# Altium schematic symbol library Plat.SchLib: 6 symbols
Pins are listed as number, name and electrical type; pins without a type are passive.

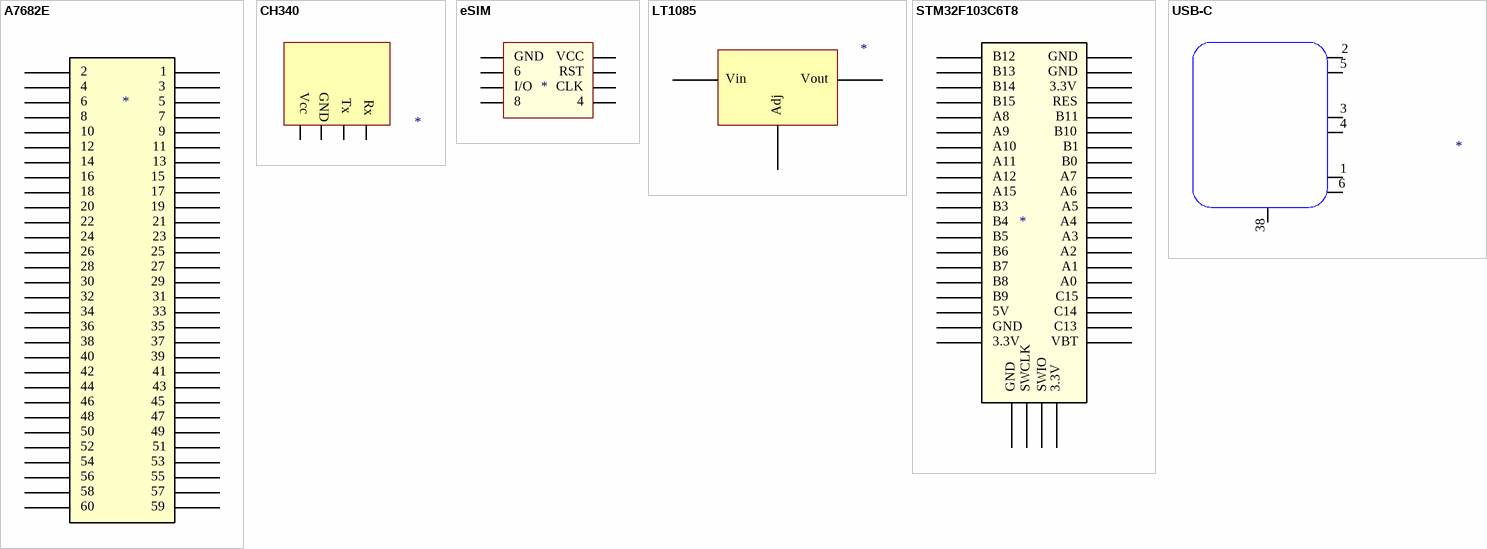
[diagram p0: symbols A7682E to USB-C]

## A7682E
designator A7682E_J20?
footprint A7682
pins: 1, 2, 3, 4, 5, 6, 7, 8, 9, 10, 11, 12, 13, 14, 15, 16, 17, 18, 19, 20, 21, 22, 23, 24, 25, 26, 27, 28, 29, 30, 31, 32, 33, 34, 35, 36, 37, 38, 39, 40, 41, 42, 43, 44, 45, 46, 47, 48, 49, 50, 51, 52, 53, 54, 55, 56, 57, 58, 59, 60

## CH340
designator CH340?
pins: 32, 33, 34, 35
text: Vcc; GND; Tx; Rx

## eSIM
designator eSIM?
footprint eSIM
pins: 1 VCC, 2 RST, 3 CLK, 4, 5 GND, 6, 7 I/O, 8

## LT1085
designator LT1085_?
LT1085
footprint LD1058-1 (D-PAK, 3-Pads, Body 7,30x8,61mm (max), IPC Medium Density)
pins: Adj, Vin, Vout

## STM32F103C6T8
designator STM32F103C6T8?
footprint STM
pins: 1 GND, 2 GND, 3 3.3V, 4 RES, 5 B11, 6 B10, 7 B1, 8 B0, 9 A7, 10 A6, 11 A5, 12 A4, 13 A3, 14 A2, 15 A1, 16 A0, 17 C15, 18 C14, 19 C13, 20 VBT, 21 B12, 22 B13, 23 B14, 24 B15, 25 A8, 26 A9, 27 A10, 28 A11, 29 A12, 30 A15, 31 B3, 32 B4, 33 B5, 34 B6, 35 B7, 36 B8, 37 B9, 38 5V, 39 GND, 40 3.3V, 41 GND, 42 SWCLK, 43 SWIO, 44 3.3V

## USB-C
designator USB-C?
footprint USB C
pins: 1 GND, 2 VBAS, 3 CC1, 4 CC2, 5 VBAS, 6 GND, 38 SHIELD